# EAGLE library part LFXP10E_XXF388 (library lattice1)
lfxp10e_fpbga388 edit this description Auto generated by make-symbol-device-package-bsdl.ulp Rev. 20 Source: lfxp10e_fpbga388.bsm
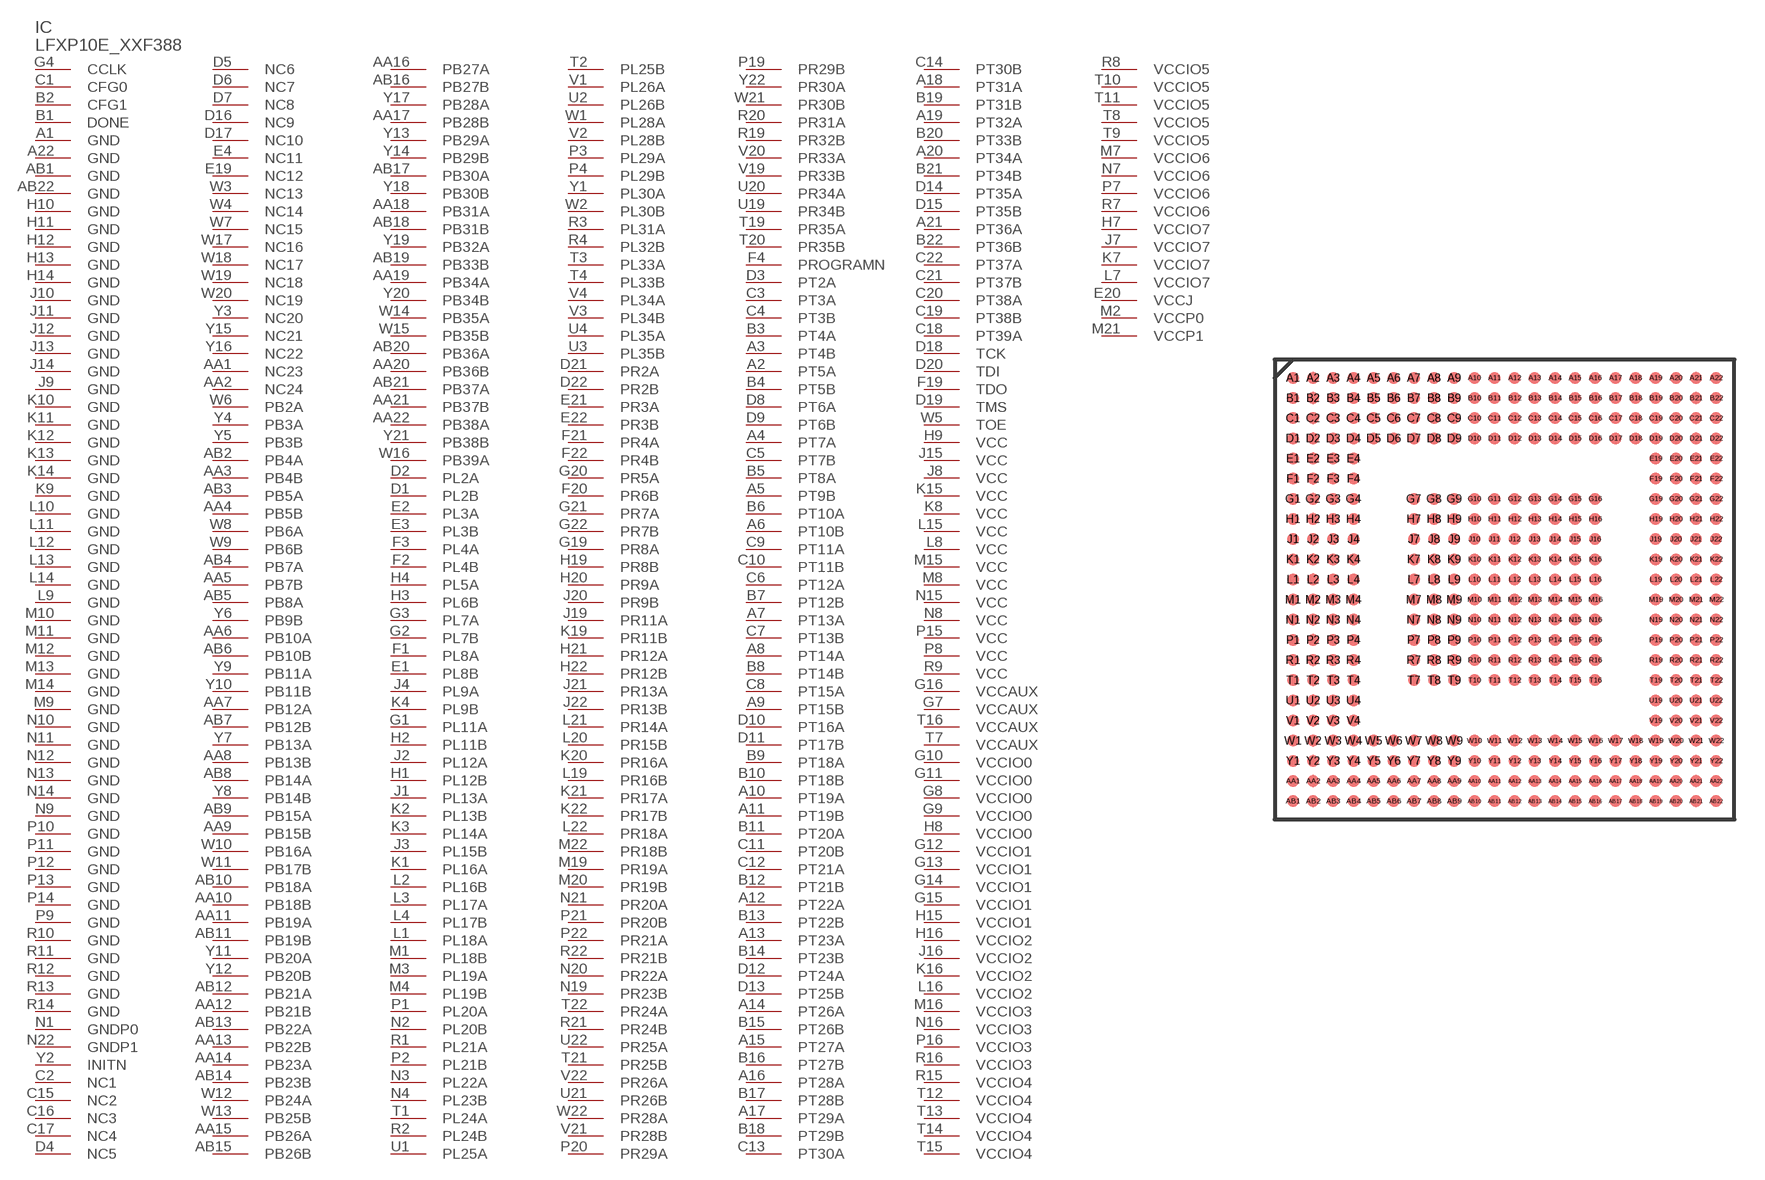
[diagram p18: symbol with the pads of FPBGA388; footprint FPBGA388]

Designator prefix IC

## LFXP10E_XXF388  [FPBGA388]
A1  GND  pwr
A2  PT5A
A3  PT4B
A4  PT7A
A5  PT9B
A6  PT10B
A7  PT13A
A8  PT14A
A9  PT15B
A10  PT19A
A11  PT19B
A12  PT22A
A13  PT23A
A14  PT26A
A15  PT27A
A16  PT28A
A17  PT29A
A18  PT31A
A19  PT32A
A20  PT34A
A21  PT36A
A22  GND  pwr
AA1  NC23  pas
AA2  NC24  pas
AA3  PB4B
AA4  PB5B
AA5  PB7B
AA6  PB10A
AA7  PB12A
AA8  PB13B
AA9  PB15B
AA10  PB18B
AA11  PB19A
AA12  PB21B
AA13  PB22B
AA14  PB23A
AA15  PB26A
AA16  PB27A
AA17  PB28B
AA18  PB31A
AA19  PB34A
AA20  PB36B
AA21  PB37B
AA22  PB38A
AB1  GND  pwr
AB2  PB4A
AB3  PB5A
AB4  PB7A
AB5  PB8A
AB6  PB10B
AB7  PB12B
AB8  PB14A
AB9  PB15A
AB10  PB18A
AB11  PB19B
AB12  PB21A
AB13  PB22A
AB14  PB23B
AB15  PB26B
AB16  PB27B
AB17  PB30A
AB18  PB31B
AB19  PB33B
AB20  PB36A
AB21  PB37A
AB22  GND  pwr
B1  DONE
B2  CFG1  in
B3  PT4A
B4  PT5B
B5  PT8A
B6  PT10A
B7  PT12B
B8  PT14B
B9  PT18A
B10  PT18B
B11  PT20A
B12  PT21B
B13  PT22B
B14  PT23B
B15  PT26B
B16  PT27B
B17  PT28B
B18  PT29B
B19  PT31B
B20  PT33B
B21  PT34B
B22  PT36B
C1  CFG0  in
C2  NC1  pas
C3  PT3A
C4  PT3B
C5  PT7B
C6  PT12A
C7  PT13B
C8  PT15A
C9  PT11A
C10  PT11B
C11  PT20B
C12  PT21A
C13  PT30A
C14  PT30B
C15  NC2  pas
C16  NC3  pas
C17  NC4  pas
C18  PT39A
C19  PT38B
C20  PT38A
C21  PT37B
C22  PT37A
D1  PL2B
D2  PL2A
D3  PT2A
D4  NC5  pas
D5  NC6  pas
D6  NC7  pas
D7  NC8  pas
D8  PT6A
D9  PT6B
D10  PT16A
D11  PT17B
D12  PT24A
D13  PT25B
D14  PT35A
D15  PT35B
D16  NC9  pas
D17  NC10  pas
D18  TCK  in
D19  TMS  in
D20  TDI  in
D21  PR2A
D22  PR2B
E1  PL8B
E2  PL3A
E3  PL3B
E4  NC11  pas
E19  NC12  pas
E20  VCCJ  pwr
E21  PR3A
E22  PR3B
F1  PL8A
F2  PL4B
F3  PL4A
F4  PROGRAMN  in
F19  TDO  out
F20  PR6B
F21  PR4A
F22  PR4B
G1  PL11A
G2  PL7B
G3  PL7A
G4  CCLK
G7  VCCAUX  pwr
G8  VCCIO0  pwr
G9  VCCIO0  pwr
G10  VCCIO0  pwr
G11  VCCIO0  pwr
G12  VCCIO1  pwr
G13  VCCIO1  pwr
G14  VCCIO1  pwr
G15  VCCIO1  pwr
G16  VCCAUX  pwr
G19  PR8A
G20  PR5A
G21  PR7A
G22  PR7B
H1  PL12B
H2  PL11B
H3  PL6B
H4  PL5A
H7  VCCIO7  pwr
H8  VCCIO0  pwr
H9  VCC  pwr
H10  GND  pwr
H11  GND  pwr
H12  GND  pwr
H13  GND  pwr
H14  GND  pwr
H15  VCCIO1  pwr
H16  VCCIO2  pwr
H19  PR8B
H20  PR9A
H21  PR12A
H22  PR12B
J1  PL13A
J2  PL12A
J3  PL15B
J4  PL9A
J7  VCCIO7  pwr
J8  VCC  pwr
J9  GND  pwr
J10  GND  pwr
J11  GND  pwr
J12  GND  pwr
J13  GND  pwr
J14  GND  pwr
J15  VCC  pwr
J16  VCCIO2  pwr
J19  PR11A
J20  PR9B
J21  PR13A
J22  PR13B
K1  PL16A
K2  PL13B
K3  PL14A
K4  PL9B
K7  VCCIO7  pwr
K8  VCC  pwr
K9  GND  pwr
K10  GND  pwr
K11  GND  pwr
K12  GND  pwr
K13  GND  pwr
K14  GND  pwr
K15  VCC  pwr
K16  VCCIO2  pwr
K19  PR11B
K20  PR16A
K21  PR17A
K22  PR17B
L1  PL18A
L2  PL16B
L3  PL17A
L4  PL17B
L7  VCCIO7  pwr
L8  VCC  pwr
L9  GND  pwr
L10  GND  pwr
L11  GND  pwr
L12  GND  pwr
L13  GND  pwr
L14  GND  pwr
L15  VCC  pwr
L16  VCCIO2  pwr
L19  PR16B
L20  PR15B
L21  PR14A
L22  PR18A
M1  PL18B
M2  VCCP0  pwr
M3  PL19A
M4  PL19B
M7  VCCIO6  pwr
M8  VCC  pwr
M9  GND  pwr
M10  GND  pwr
M11  GND  pwr
M12  GND  pwr
M13  GND  pwr
M14  GND  pwr
M15  VCC  pwr
M16  VCCIO3  pwr
M19  PR19A
M20  PR19B
M21  VCCP1  pwr
M22  PR18B
N1  GNDP0  pwr
N2  PL20B
N3  PL22A
N4  PL23B
N7  VCCIO6  pwr
N8  VCC  pwr
N9  GND  pwr
N10  GND  pwr
N11  GND  pwr
N12  GND  pwr
N13  GND  pwr
N14  GND  pwr
N15  VCC  pwr
N16  VCCIO3  pwr
N19  PR23B
N20  PR22A
N21  PR20A
N22  GNDP1  pwr
P1  PL20A
P2  PL21B
P3  PL29A
P4  PL29B
P7  VCCIO6  pwr
P8  VCC  pwr
P9  GND  pwr
P10  GND  pwr
P11  GND  pwr
P12  GND  pwr
P13  GND  pwr
P14  GND  pwr
P15  VCC  pwr
P16  VCCIO3  pwr
P19  PR29B
P20  PR29A
P21  PR20B
P22  PR21A
R1  PL21A
R2  PL24B
R3  PL31A
R4  PL32B
R7  VCCIO6  pwr
R8  VCCIO5  pwr
R9  VCC  pwr
R10  GND  pwr
R11  GND  pwr
R12  GND  pwr
R13  GND  pwr
R14  GND  pwr
R15  VCCIO4  pwr
R16  VCCIO3  pwr
R19  PR32B
R20  PR31A
R21  PR24B
R22  PR21B
T1  PL24A
T2  PL25B
T3  PL33A
T4  PL33B
T7  VCCAUX  pwr
T8  VCCIO5  pwr
T9  VCCIO5  pwr
T10  VCCIO5  pwr
T11  VCCIO5  pwr
T12  VCCIO4  pwr
T13  VCCIO4  pwr
T14  VCCIO4  pwr
T15  VCCIO4  pwr
T16  VCCAUX  pwr
T19  PR35A
T20  PR35B
T21  PR25B
T22  PR24A
U1  PL25A
U2  PL26B
U3  PL35B
U4  PL35A
U19  PR34B
U20  PR34A
U21  PR26B
U22  PR25A
V1  PL26A
V2  PL28B
V3  PL34B
V4  PL34A
V19  PR33B
V20  PR33A
V21  PR28B
V22  PR26A
W1  PL28A
W2  PL30B
W3  NC13  pas
W4  NC14  pas
W5  TOE  in
W6  PB2A
W7  NC15  pas
W8  PB6A
W9  PB6B
W10  PB16A
W11  PB17B
W12  PB24A
W13  PB25B
W14  PB35A
W15  PB35B
W16  PB39A
W17  NC16  pas
W18  NC17  pas
W19  NC18  pas
W20  NC19  pas
W21  PR30B
W22  PR28A
Y1  PL30A
Y2  INITN
Y3  NC20  pas
Y4  PB3A
Y5  PB3B
Y6  PB9B
Y7  PB13A
Y8  PB14B
Y9  PB11A
Y10  PB11B
Y11  PB20A
Y12  PB20B
Y13  PB29A
Y14  PB29B
Y15  NC21  pas
Y16  NC22  pas
Y17  PB28A
Y18  PB30B
Y19  PB32A
Y20  PB34B
Y21  PB38B
Y22  PR30A

## Footprint FPBGA388 (pad centres in mm)
lfxp10c_fpbga388 edit this description Auto generated by make-symbol-device-package-bsdl.ulp Rev. 20 Source: lfxp10c_fpbga388.bsm
smd 0.6 x 0.6: A1 -10.5,10.5; A2 -9.5,10.5; A3 -8.5,10.5; A4 -7.5,10.5; A5 -6.5,10.5; A6 -5.5,10.5; A7 -4.5,10.5; A8 -3.5,10.5; A9 -2.5,10.5; A10 -1.5,10.5; A11 -0.5,10.5; A12 0.5,10.5; A13 1.5,10.5; A14 2.5,10.5; A15 3.5,10.5; A16 4.5,10.5; A17 5.5,10.5; A18 6.5,10.5; A19 7.5,10.5; A20 8.5,10.5; A21 9.5,10.5; A22 10.5,10.5; AA1 -10.5,-9.5; AA2 -9.5,-9.5; AA3 -8.5,-9.5; AA4 -7.5,-9.5; AA5 -6.5,-9.5; AA6 -5.5,-9.5; AA7 -4.5,-9.5; AA8 -3.5,-9.5; AA9 -2.5,-9.5; AA10 -1.5,-9.5; AA11 -0.5,-9.5; AA12 0.5,-9.5; AA13 1.5,-9.5; AA14 2.5,-9.5; AA15 3.5,-9.5; AA16 4.5,-9.5; AA17 5.5,-9.5; AA18 6.5,-9.5; AA19 7.5,-9.5; AA20 8.5,-9.5; AA21 9.5,-9.5; AA22 10.5,-9.5; AB1 -10.5,-10.5; AB2 -9.5,-10.5; AB3 -8.5,-10.5; AB4 -7.5,-10.5; AB5 -6.5,-10.5; AB6 -5.5,-10.5; AB7 -4.5,-10.5; AB8 -3.5,-10.5; AB9 -2.5,-10.5; AB10 -1.5,-10.5; AB11 -0.5,-10.5; AB12 0.5,-10.5; AB13 1.5,-10.5; AB14 2.5,-10.5; AB15 3.5,-10.5; AB16 4.5,-10.5; AB17 5.5,-10.5; AB18 6.5,-10.5; AB19 7.5,-10.5; AB20 8.5,-10.5; AB21 9.5,-10.5; AB22 10.5,-10.5; B1 -10.5,9.5; B2 -9.5,9.5; B3 -8.5,9.5; B4 -7.5,9.5; B5 -6.5,9.5; B6 -5.5,9.5; B7 -4.5,9.5; B8 -3.5,9.5; B9 -2.5,9.5; B10 -1.5,9.5; B11 -0.5,9.5; B12 0.5,9.5; B13 1.5,9.5; B14 2.5,9.5; B15 3.5,9.5; B16 4.5,9.5; B17 5.5,9.5; B18 6.5,9.5; B19 7.5,9.5; B20 8.5,9.5; B21 9.5,9.5; B22 10.5,9.5; C1 -10.5,8.5; C2 -9.5,8.5; C3 -8.5,8.5; C4 -7.5,8.5; C5 -6.5,8.5; C6 -5.5,8.5; C7 -4.5,8.5; C8 -3.5,8.5; C9 -2.5,8.5; C10 -1.5,8.5; C11 -0.5,8.5; C12 0.5,8.5; C13 1.5,8.5; C14 2.5,8.5; C15 3.5,8.5; C16 4.5,8.5; C17 5.5,8.5; C18 6.5,8.5; C19 7.5,8.5; C20 8.5,8.5; C21 9.5,8.5; C22 10.5,8.5; D1 -10.5,7.5; D2 -9.5,7.5; D3 -8.5,7.5; D4 -7.5,7.5; D5 -6.5,7.5; D6 -5.5,7.5; D7 -4.5,7.5; D8 -3.5,7.5; D9 -2.5,7.5; D10 -1.5,7.5; D11 -0.5,7.5; D12 0.5,7.5; D13 1.5,7.5; D14 2.5,7.5; D15 3.5,7.5; D16 4.5,7.5; D17 5.5,7.5; D18 6.5,7.5; D19 7.5,7.5; D20 8.5,7.5; D21 9.5,7.5; D22 10.5,7.5; E1 -10.5,6.5; E2 -9.5,6.5; E3 -8.5,6.5; E4 -7.5,6.5; E19 7.5,6.5; E20 8.5,6.5; E21 9.5,6.5; E22 10.5,6.5; F1 -10.5,5.5; F2 -9.5,5.5; F3 -8.5,5.5; F4 -7.5,5.5; F19 7.5,5.5; F20 8.5,5.5; F21 9.5,5.5; F22 10.5,5.5; G1 -10.5,4.5; G2 -9.5,4.5; G3 -8.5,4.5; G4 -7.5,4.5; G7 -4.5,4.5; G8 -3.5,4.5; G9 -2.5,4.5; G10 -1.5,4.5; G11 -0.5,4.5; G12 0.5,4.5; G13 1.5,4.5; G14 2.5,4.5; G15 3.5,4.5; G16 4.5,4.5; G19 7.5,4.5; G20 8.5,4.5; G21 9.5,4.5; G22 10.5,4.5; H1 -10.5,3.5; H2 -9.5,3.5; H3 -8.5,3.5; H4 -7.5,3.5; H7 -4.5,3.5; H8 -3.5,3.5; H9 -2.5,3.5; H10 -1.5,3.5; H11 -0.5,3.5; H12 0.5,3.5; H13 1.5,3.5; H14 2.5,3.5; H15 3.5,3.5; H16 4.5,3.5; H19 7.5,3.5; H20 8.5,3.5; H21 9.5,3.5; H22 10.5,3.5; J1 -10.5,2.5; J2 -9.5,2.5; J3 -8.5,2.5; J4 -7.5,2.5; J7 -4.5,2.5; J8 -3.5,2.5; J9 -2.5,2.5; J10 -1.5,2.5; J11 -0.5,2.5; J12 0.5,2.5; J13 1.5,2.5; J14 2.5,2.5; J15 3.5,2.5; J16 4.5,2.5; J19 7.5,2.5; J20 8.5,2.5; J21 9.5,2.5; J22 10.5,2.5; K1 -10.5,1.5; K2 -9.5,1.5; K3 -8.5,1.5; K4 -7.5,1.5; K7 -4.5,1.5; K8 -3.5,1.5; K9 -2.5,1.5; K10 -1.5,1.5; K11 -0.5,1.5; K12 0.5,1.5; K13 1.5,1.5; K14 2.5,1.5; K15 3.5,1.5; K16 4.5,1.5; K19 7.5,1.5; K20 8.5,1.5; K21 9.5,1.5; K22 10.5,1.5; L1 -10.5,0.5; L2 -9.5,0.5; L3 -8.5,0.5; L4 -7.5,0.5; L7 -4.5,0.5; L8 -3.5,0.5; L9 -2.5,0.5; L10 -1.5,0.5; L11 -0.5,0.5; L12 0.5,0.5; L13 1.5,0.5; L14 2.5,0.5; L15 3.5,0.5; L16 4.5,0.5; L19 7.5,0.5; L20 8.5,0.5; L21 9.5,0.5; L22 10.5,0.5; M1 -10.5,-0.5; M2 -9.5,-0.5; M3 -8.5,-0.5; M4 -7.5,-0.5; M7 -4.5,-0.5; M8 -3.5,-0.5; M9 -2.5,-0.5; M10 -1.5,-0.5; M11 -0.5,-0.5; M12 0.5,-0.5; M13 1.5,-0.5; M14 2.5,-0.5; M15 3.5,-0.5; M16 4.5,-0.5; M19 7.5,-0.5; M20 8.5,-0.5; M21 9.5,-0.5; M22 10.5,-0.5; N1 -10.5,-1.5; N2 -9.5,-1.5; N3 -8.5,-1.5; N4 -7.5,-1.5; N7 -4.5,-1.5; N8 -3.5,-1.5; N9 -2.5,-1.5; N10 -1.5,-1.5; N11 -0.5,-1.5; N12 0.5,-1.5; N13 1.5,-1.5; N14 2.5,-1.5; N15 3.5,-1.5; N16 4.5,-1.5; N19 7.5,-1.5; N20 8.5,-1.5; N21 9.5,-1.5; N22 10.5,-1.5; P1 -10.5,-2.5; P2 -9.5,-2.5; P3 -8.5,-2.5; P4 -7.5,-2.5; P7 -4.5,-2.5; P8 -3.5,-2.5; P9 -2.5,-2.5; P10 -1.5,-2.5; P11 -0.5,-2.5; P12 0.5,-2.5; P13 1.5,-2.5; P14 2.5,-2.5; P15 3.5,-2.5; P16 4.5,-2.5; P19 7.5,-2.5; P20 8.5,-2.5; P21 9.5,-2.5; P22 10.5,-2.5; R1 -10.5,-3.5; R2 -9.5,-3.5; R3 -8.5,-3.5; R4 -7.5,-3.5; R7 -4.5,-3.5; R8 -3.5,-3.5; R9 -2.5,-3.5; R10 -1.5,-3.5; R11 -0.5,-3.5; R12 0.5,-3.5; R13 1.5,-3.5; R14 2.5,-3.5; R15 3.5,-3.5; R16 4.5,-3.5; R19 7.5,-3.5; R20 8.5,-3.5; R21 9.5,-3.5; R22 10.5,-3.5; T1 -10.5,-4.5; T2 -9.5,-4.5; T3 -8.5,-4.5; T4 -7.5,-4.5; T7 -4.5,-4.5; T8 -3.5,-4.5; T9 -2.5,-4.5; T10 -1.5,-4.5; T11 -0.5,-4.5; T12 0.5,-4.5; T13 1.5,-4.5; T14 2.5,-4.5; T15 3.5,-4.5; T16 4.5,-4.5; T19 7.5,-4.5; T20 8.5,-4.5; T21 9.5,-4.5; T22 10.5,-4.5; U1 -10.5,-5.5; U2 -9.5,-5.5; U3 -8.5,-5.5; U4 -7.5,-5.5; U19 7.5,-5.5; U20 8.5,-5.5; U21 9.5,-5.5; U22 10.5,-5.5; V1 -10.5,-6.5; V2 -9.5,-6.5; V3 -8.5,-6.5; V4 -7.5,-6.5; V19 7.5,-6.5; V20 8.5,-6.5; V21 9.5,-6.5; V22 10.5,-6.5; W1 -10.5,-7.5; W2 -9.5,-7.5; W3 -8.5,-7.5; W4 -7.5,-7.5; W5 -6.5,-7.5; W6 -5.5,-7.5; W7 -4.5,-7.5; W8 -3.5,-7.5; W9 -2.5,-7.5; W10 -1.5,-7.5; W11 -0.5,-7.5; W12 0.5,-7.5; W13 1.5,-7.5; W14 2.5,-7.5; W15 3.5,-7.5; W16 4.5,-7.5; W17 5.5,-7.5; W18 6.5,-7.5; W19 7.5,-7.5; W20 8.5,-7.5; W21 9.5,-7.5; W22 10.5,-7.5; Y1 -10.5,-8.5; Y2 -9.5,-8.5; Y3 -8.5,-8.5; Y4 -7.5,-8.5; Y5 -6.5,-8.5; Y6 -5.5,-8.5; Y7 -4.5,-8.5; Y8 -3.5,-8.5; Y9 -2.5,-8.5; Y10 -1.5,-8.5; Y11 -0.5,-8.5; Y12 0.5,-8.5; Y13 1.5,-8.5; Y14 2.5,-8.5; Y15 3.5,-8.5; Y16 4.5,-8.5; Y17 5.5,-8.5; Y18 6.5,-8.5; Y19 7.5,-8.5; Y20 8.5,-8.5; Y21 9.5,-8.5; Y22 10.5,-8.5